# Altium footprint library ThermocouplePCBConnector.PcbLib: 1 footprints
Each footprint in its own frame and in the unit in brackets; x right, y up, seen from the top. Pads: shape width x height; smd on the part's side, far side on the other; paste and mask are expansions set on the pad; w line width, h text height; cw(c..) or ccw(c..) is an arc to the next point about the centre after c.
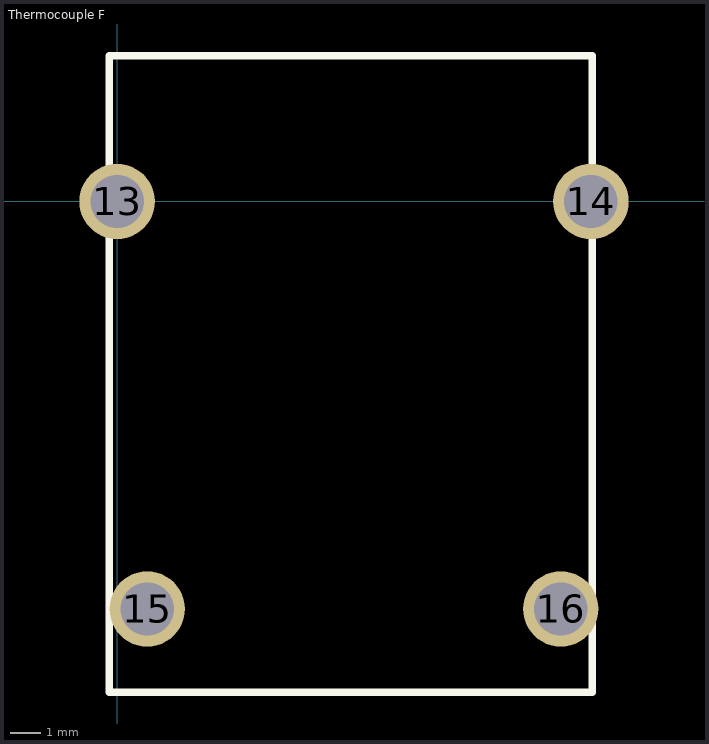
[diagram p0: the footprint, top view; thin cyan lines are the x and y axes]

## Thermocouple F [mm]
pads (4):
  round 2.5 hole 1.77: 13(0,0) 14(15.7,0) 15(1,-13.5) 16(14.7,-13.5)
Top Overlay:
  lines w0.254: -0.254,-16.256 15.748,-16.256 15.748,4.826 -0.254,4.826 -0.254,-16.256
3D body "User Library-PCC-SMP.STEP": height 7.35, standoff -3.75, extent -0.079,-16.115 15.621,4.685